# Altium integrated library Altium_IC.IntLib: 49 symbols (part 2 of 2)
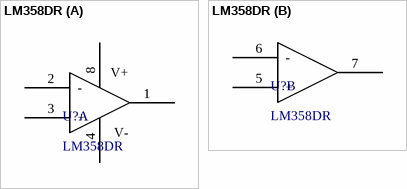
[diagram p20: symbol LM358DR]

## LM358DR
designator U?
Operational Amplifiers - Op Amps Dual Op Amp; Manufacturer: Texas Instruments; Active Read Current - Max: Active; CMRR - Common Mode Rejection Ratio: 80 dB; Dual Supply Voltage: +/- 3 V, +/- 5 V, +/- 9 V; GBP - Gain Bandwidth Product: 700 kHz; Ib - Input Bias Current: 250 nA; Number of Channels: 2 Channel; Operating Supply Current: 350 uA; Output Current per Channel: 20 mA; SR - Slew Rate: 300 mV/us; Supply Voltage - Max: 32 V; Supply Voltage - Min: 3 V; Voltage Gain dB: 100 dB; Vos - Input Offset Voltage: 7 mV; Supplier 1 URL: https://www.mouser.com/ProductDetail/Texas-Instruments/LM358DR?qs=Zu35EjizYSSY6pJ37yjmHA%3D%3D; Supplier 2 URL: N/A; Supplier 3 URL: N/A; Value: LM358DR; Manufacturer Part Number: LM358DR; Supplier 1: Mouser; Supplier 1 Part Number: 595-LM358DR; Supplier 2: Digi-Key; Supplier 2 Part Number: N/A; Supplier 3: thegioiic; Supplier 3 Part Number: N/A; Mount: SMD/SMT; Operating Temperature Max: + 85 C; Operating Temperature Min: - 40 C; Package / Case: SOIC-8; Packaging: Tape and Reel; ComponentLink1Description: Datasheet; ComponentLink1URL: https://www.ti.com/general/docs/suppproductinfo.tsp?distId=26&gotoUrl=https://www.ti.com/lit/gpn/lm358; LCSC Part #: C5423
footprint LM358DR (SOIC, 8-Leads, Body 4.90x3.90mm, Pitch 1.27mm, IPC Medium Density)
part A pins: 1 OUT 1, 2 -, 3 +, 4 GND, 8 VCC
part B pins: 5 +, 6 -, 7 OUT 1
part A text: V+; V-


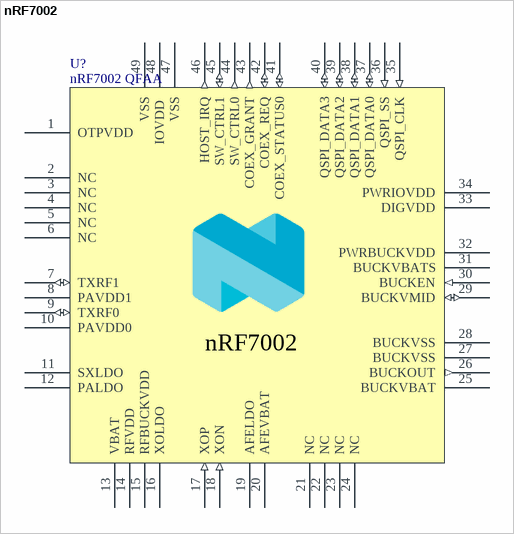
[diagram p12: symbol nRF7002]

## nRF7002
designator U?, comment nRF7002 QFAA
Wifi Dual Band Companion chip; Manufacturer: Nordic Semiconductor; Manufacturer Part Number: nRF7002-QFAAAA; Pad Count: 49; Supply Voltage - Max: 3.3 V; Supply Voltage - Min: 1.8 V; Component Class: nRF_Devices; Author: hany; Published: 2021-09-16; Value: nRF7002 QFAA; Supplier 1 URL: https://www.mouser.sg/c/?q=NRF7002-QFAA-R; Supplier 2 URL: N/A; Supplier 3 URL: N/A; Supplier 1: Mouser; Supplier 1 Part Number: nRF7002; Supplier 2: Digi-Key; Supplier 2 Part Number: N/A; Supplier 3: thegioiic; Supplier 3 Part Number: N/A; Mount: SMD/SMT; Operating Temperature Max: + 85 C; Operating Temperature Min: - 40 C; Package / Case: QFN-48; ComponentLink1Description: Datasheet; ComponentLink1URL: https://www.mouser.sg/datasheet/2/297/Nordic_Semiconductor_1_6_2023_nRF7002_IC_Product_B-3084788.pdf; Packaging: Tape and Reel
footprint nRF7002 (QFN40P600X600X60-48N)
pins: 1 OTPVDD (power) "OTP write mode supply,  (2.25-2.75V)", 2 NC, 3 NC, 4 NC, 5 NC, 6 NC, 7 TXRF1 (io) "RF INOUT ,", 8 PAVDD1 (power) "Supply ,  (3.3V)", 9 TXRF0 (io) "RF INOUT ,", 10 PAVDD0 (power) "Supply ,  (3.3V)", 11 SXLDO (power) "Supply ,  (1.2V)", 12 PALDO (power) "Supply ,  (3.3V)", 13 VBAT (power) "Supply ,  (2.5-4.5V)", 14 RFVDD (power) "Supply ,  (1.8V)", 15 RFBUCKVDD (power) "Supply ,  (1.5V)", 16 XOLDO (power) "Supply ,  (1.2V)", 17 XOP (in) "40MHz crystal ,", 18 XON (in) "40MHz crystal ,", 19 AFELDO (power) "Supply ,  (1.8V)", 20 AFEVBAT (power) "Supply ,  (2.5-4.5V)", 21 NC, 22 NC, 23 NC, 24 NC, 25 BUCKVBAT (power) "Supply ,  (2.5-4.5V)", 26 BUCKOUT (out) "DCDC output", 27 BUCKVSS (power) "DCDC GND", 28 BUCKVSS (power) "DCDC GND", 29 BUCKVMID (io) "Voltage reference decoupling pin ,", 30 BUCKEN (in) "PWR IP enable pin ,", 31 BUCKVBATS (power) "Supply ,  (2.5-4.5V)", 32 PWRBUCKVDD (power) "Supply ,  (1.5V)", 33 DIGVDD (power) "Supply ,  (1.1V)", 34 PWRIOVDD (power) "internal IO supply, may be used for OTP read,  (1.8-3.3 V)", 35 QSPI_CLK (in) "QSPI Clock", 36 QSPI_SS (in) "QSPI  Slave select", 37 QSPI_DATA0 (io) "QSPI data 0/MOSI", 38 QSPI_DATA1 (io) "QSPI data 1/MISO", 39 QSPI_DATA2 (io) "QSPI data 2/NC", 40 QSPI_DATA3 (io) "QSPI data 3/NC", 41 COEX_STATUS0 (io) "Coex interface, DIGMON1 (O) / GPIO1 (O)", 42 COEX_REQ (io) "Coex interface, DIGMON0 (O) / GPIO0 (O)", 43 COEX_GRANT (out) "Coex interface, GPIO2 (O)", 44 SW_CTRL0 (out) "external switch control , GPIO3 (O)", 45 SW_CTRL1 (io) "external switch control , GPIO4 (O) / BT_COEX_STATUS1 (I)", 46 HOST_IRQ (out) "Host processor interrupt request , GPIO5 (O)", 47 VSS "Connect to GND", 48 IOVDD  (power) "IO supply ,  (1.8-3.3 V)", 49 VSS (power) "Center Pad"


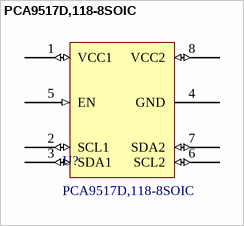
[diagram p13: symbol PCA9517D,118-8SOIC]

## PCA9517D,118-8SOIC
designator U?
IC REDRIVER I2C 1CH 400KHZ 8SOIC; Manufacturer: NXP USA Inc.; Active Read Current - Max: 5 mA; Number of Channels: 2; Capacitance - Input: 6 pF; Supply Voltage - Max: 5.5 V; Supply Voltage - Min: 2.7 V; Applications: I2C; Data Rate (Max): 400 kHz; Supplier 1 URL: https://www.mouser.com/ProductDetail/NXP-Semiconductors/PCA9517D118?qs=LOCUfHb8d9vRhua6vNQMbg%3D%3D; Supplier 2 URL: https://www.digikey.com/en/products/detail/nxp-usa-inc/PCA9517D-118/789917; Supplier 3 URL: N/A; Value: PCA9517D,118-8SOIC; Supplier 1: Mouser; Supplier 1 Part Number: 771-PCA9517D-T; Supplier 2: Digi-Key; Supplier 2 Part Number: 568-1828-2-ND; Supplier 3: thegioiic; Supplier 3 Part Number: N/A; Manufacturer Part Number: PCA9517D,118; Mount: SMD/SMT; Operating Temperature Max: + 85 C; Operating Temperature Min: - 40 C; Package / Case: 8SOIC; Packaging: Tape and Reel; ComponentLink1Description: Datasheet; ComponentLink1URL: https://www.nxp.com/docs/en/data-sheet/PCA9517.pdf
footprint PCA9517D,118-8SOIC (SOIC, 8-Leads, Body 4.90x3.90mm, Pitch 1.27mm, IPC Medium Density)
pins: 1 VCC1 (io), 2 SCL1 (io), 3 SDA1 (io), 4 GND (power), 5 EN (in), 6 SCL2 (io), 7 SDA2 (io), 8 VCC2 (io)


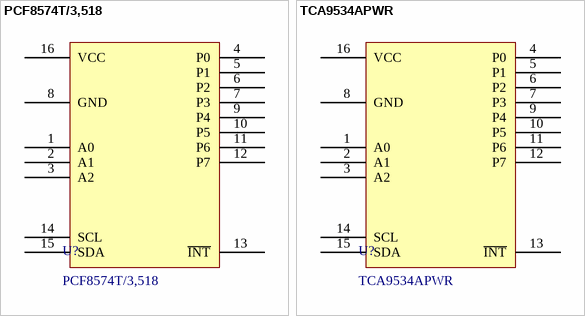
[diagram p14: symbols PCF8574T/3,518 to TCA9534APWR]

## PCF8574T/3,518
designator U?
Interface - I/O Expanders I/O EXPANDER I2C; Manufacturer: NXP; Supply Voltage - Max: 6 V; Supply Voltage - Min: 2.5 V; Configuration Registers: No; Interface Type: I2C, Serial; Interrupt Output: With Interrupt; Maximum Clock Frequency: 100 kHz; Number of I/Os: 8 I/O; ComponentLink1Description: Datasheet; ComponentLink1URL: https://www.mouser.vn/datasheet/2/302/PCF8574_PCF8574A-3139141.pdf; LCSC Part #: C7605; Manufacturer Part Number: PCF8574T/3,518; Mount: SMD/SMT; Operating Temperature Max: + 85 C; Operating Temperature Min: - 40 C; Package / Case: SOIC-16; Packaging: Tape and Reel; Supplier 1: Mouser; Supplier 1 Part Number: 771-PCF8574TD-T; Supplier 1 URL: https://www.mouser.vn/ProductDetail/NXP-Semiconductors/PCF8574T-3518?qs=LOCUfHb8d9srwcgHHpXqQw%3D%3D; Supplier 2: Digi-Key; Supplier 2 Part Number: N/A; Supplier 2 URL: N/A; Supplier 3: thegioiic; Supplier 3 Part Number: N/A; Supplier 3 URL: N/A; Value: PCF8574T/3,518
footprint PCF8574T/3,518 (SOIC, 16-Leads, Body 10.30x7.50mm, Pitch 1.27mm, IPC Medium Density)
pins: 1 A0, 2 A1, 3 A2, 4 P0, 5 P1, 6 P2, 7 P3, 8 GND, 9 P4, 10 P5, 11 P6, 12 P7, 13 ~{INT}, 14 SCL, 15 SDA, 16 VCC

## TCA9534APWR
designator U?
Interface - I/O Expanders Remote 8B I2C and Low-Pwr I/O Expander; Manufacturer: Texas Instruments; Supply Voltage - Max: 5.5 V; Supply Voltage - Min: 1.65 V; Configuration Registers: Yes; Interface Type: I2C, Serial, SMBus; Interrupt Output: With Interrupt; Maximum Clock Frequency: 400 kHz; Number of I/Os: 8 I/O; ComponentLink1Description: Datasheet; ComponentLink1URL: https://www.ti.com/general/docs/suppproductinfo.tsp?distId=26&gotoUrl=https://www.ti.com/lit/gpn/tca9534a; LCSC Part #: C206010; Manufacturer Part Number: TCA9534APWR; Mount: SMD/SMT; Operating Temperature Max: + 85 C; Operating Temperature Min: - 40 C; Package / Case: TSSOP-16; Packaging: Tape and Reel; Supplier 1: Mouser; Supplier 1 Part Number: 595-TCA9534APWR; Supplier 1 URL: https://www.mouser.vn/ProductDetail/Texas-Instruments/TCA9534APWR?qs=asCBFxFfL1RkU8XbvZBOXg%3D%3D; Supplier 2: Digi-Key; Supplier 2 Part Number: N/A; Supplier 2 URL: N/A; Supplier 3: thegioiic; Supplier 3 Part Number: N/A; Supplier 3 URL: N/A; Value: TCA9534APWR
footprint TCA9534APWR (TSOP, 16-Leads, Body 5.00x4.40mm, Pitch 0.65mm, IPC Medium Density)
pins: 1 A0, 2 A1, 3 A2, 4 P0, 5 P1, 6 P2, 7 P3, 8 GND, 9 P4, 10 P5, 11 P6, 12 P7, 13 ~{INT}, 14 SCL, 15 SDA, 16 VCC


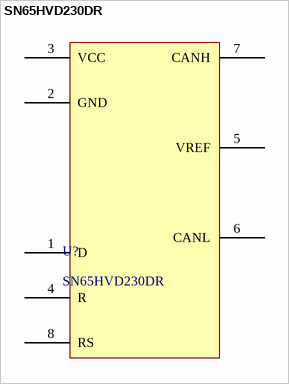
[diagram p15: symbol SN65HVD230DR]

## SN65HVD230DR
designator U?
CAN Interface IC STANDBY MODE; Manufacturer: Texas Instruments; Active Read Current - Max: Active; Data Rate: 1 Mb/s; Number of Drivers: 1; Supply Voltage - Max: 3.6 V; Supply Voltage - Min: 3.1 V; Supplier 1 URL: https://www.mouser.com/ProductDetail/Texas-Instruments/SN65HVD230DR?qs=QViXGNcIEAtifeQR3pYVUQ%3D%3D; Supplier 2 URL: https://www.digikey.com/en/products/detail/texas-instruments/SN65HVD230DR/404367; Supplier 3 URL: https://www.thegioiic.com/sn65hvd230dr-can-transceiver-8-soic; Value: SN65HVD230DR; Number of Receivers: 1; Supplier 1: Mouser; Supplier 1 Part Number: 595-SN65HVD230DR; Supplier 2: Digi-Key; Supplier 2 Part Number: 296-11654-2-ND; Supplier 3: thegioiic; Supplier 3 Part Number: SN65HVD230DR; Manufacturer Part Number: SN65HVD230DR; Mount: SMD/SMT; Operating Temperature Max: + 85 C; Operating Temperature Min: - 40 C; Package / Case: SOIC-8; ComponentLink1Description: Datasheet; ComponentLink1URL: https://www.ti.com/general/docs/suppproductinfo.tsp?distId=26&gotoUrl=https://www.ti.com/lit/gpn/sn65hvd230; Packaging: Tape and Reel
footprint SN65HVD230 (SOIC, 8-Leads, Body 4.91x3.85mm, Pitch 1.27mm, IPC Medium Density)
pins: 1 D, 2 GND, 3 VCC, 4 R, 5 VREF, 6 CANL, 7 CANH, 8 RS


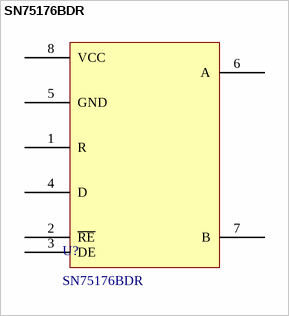
[diagram p16: symbol SN75176BDR]

## SN75176BDR
designator U?
RS-422/RS-485 Interface IC Differential Bus; Manufacturer: Texas Instruments; Active Read Current - Max: Active; Data Rate: 10 Mb/s; Duplex: Half Duplex; Number of Drivers: 1; Operating Supply Current: 70 mA; Supply Voltage - Max: 5.25 V; Supply Voltage - Min: 4.75 V; Supplier 1 URL: https://www.mouser.com/ProductDetail/Texas-Instruments/SN75176BDR?qs=sbcp%2F4gpy09LI1PRfuQQ%252BA%3D%3D; Supplier 2 URL: N/A; Supplier 3 URL: N/A; Value: SN75176BDR; Number of Receivers: 1; Manufacturer Part Number: SN75176BDR; Packaging: Tape and Reel; Supplier 1: Mouser; Supplier 1 Part Number: 595-SN75176BDR; Supplier 2: Digi-Key; Supplier 2 Part Number: N/A; Supplier 3: thegioiic; Supplier 3 Part Number: N/A; Mount: SMD/SMT; Operating Temperature Max: + 85 C; Operating Temperature Min: - 40 C; Package / Case: SOIC-8; ComponentLink1Description: Datasheet; ComponentLink1URL: https://www.ti.com/general/docs/suppproductinfo.tsp?distId=26&gotoUrl=https://www.ti.com/lit/gpn/sn75176b; LCSC Part #: C7063
footprint SN75176BDR (SOIC, 8-Leads, Body 4.90x3.90mm, Pitch 1.27mm, IPC Medium Density)
pins: 1 R, 2 ~{RE}, 3 DE, 4 D, 5 GND, 6 A, 7 B, 8 VCC


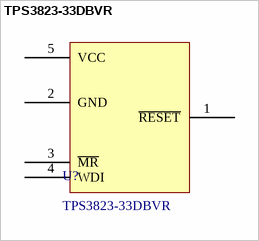
[diagram p17: symbol TPS3823-33DBVR]

## TPS3823-33DBVR
designator U?
Supervisory Circuits 2.93V Monitor; Manufacturer: Texas Instruments; Supply Voltage - Max: 5.5 V; Supply Voltage - Min: 1.1 V; Accuracy: 2.4%; Battery Backup Switching: No Backup; Chip Enable Signals: No Chip Enable; Number of Inputs Monitored: 1 Input; Operating Supply Current: 15 uA; Output Current: 10 mA; Output Type: Active Low, Push-Pull; Overvoltage Threshold: 3 V; Pd - Power Dissipation: 437 mW; Power Fail Detection: No; Reset Delay Time: 200 ms; Watchdog Timers: Watchdog; ComponentLink1Description: Datasheet; ComponentLink1URL: https://www.ti.com/lit/gpn/tps3823; LCSC Part #: C7719; Manufacturer Part Number: TPS3823-33DBVR; Mount: SMD/SMT; Operating Temperature Max: + 85 C; Operating Temperature Min: - 40 C; Package / Case: SOT-23-5; Packaging: Tape and Reel; Supplier 1: Mouser; Supplier 1 Part Number: 595-TPS3823-33DBVR; Supplier 1 URL: https://www.mouser.com/ProductDetail/Texas-Instruments/TPS3823-33DBVR?qs=mTHRaKC2c7OFNY0AQKcsRQ%3D%3D; Supplier 2: Digi-Key; Supplier 2 Part Number: N/A; Supplier 2 URL: N/A; Supplier 3: thegioiic; Supplier 3 Part Number: N/A; Supplier 3 URL: N/A; Value: TPS3823-33DBVR; Manual Reset: Manual Reset; Threshold Voltage: 2.93 V; Undervoltage Threshold: 2.93 V
footprint TPS382x-SOT-23-5 (SOT23, 5-Leads, Body 2.90x2.80mm, Pitch 0.95mm, IPC Medium Density)
pins: 1 ~{RESET}, 2 GND, 3 ~{MR}, 4 WDI, 5 VCC


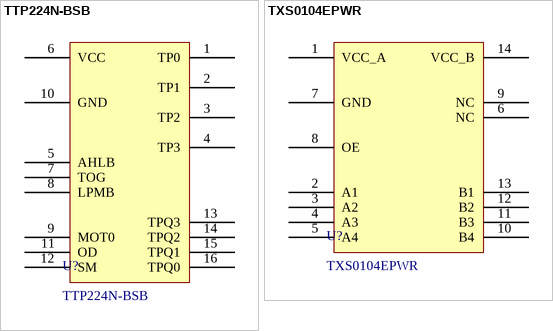
[diagram p18: symbols TTP224N-BSB to TXS0104EPWR]

## TTP224N-BSB
designator U?
4 KEY TOUCH PAD DETECTOR IC; Manufacturer: TONTEK; Active Read Current - Max: Active; Supply Voltage - Max: 5.5 V; Supply Voltage - Min: 2.7 V; Supplier 1: Mouser; Supplier 1 Part Number: N/A; Supplier 1 URL: N/A; Supplier 2: Digi-Key; Supplier 2 Part Number: N/A; Supplier 2 URL: N/A; Supplier 3: thegioiic; Supplier 3 Part Number: TTP224N-BSB; Supplier 3 URL: https://www.thegioiic.com/ttp224n-bsb; Value: TTP224N-BSB; Manufacturer Part Number: TTP224N-BSB; Mount: SMD/SMT; Operating Temperature Max: + 85 C; Operating Temperature Min: - 40 C; Packaging: Tape and Reel; ComponentLink1Description: Datasheet; ComponentLink1URL: N/A
footprint TouchSensorIC_16Pin (SOP, 16-Leads, Body 4.90x3.90mm, Pitch 0.64mm, IPC Medium Density)
pins: 1 TP0, 2 TP1, 3 TP2, 4 TP3, 5 AHLB, 6 VCC, 7 TOG, 8 LPMB, 9 MOT0, 10 GND, 11 OD, 12 SM, 13 TPQ3, 14 TPQ2, 15 TPQ1, 16 TPQ0

## TXS0104EPWR
designator U?
Translation - Voltage Levels 4B Bidrctnl Vltg Lvl Trnsltr Opn Dran App; Manufacturer: Texas Instruments; Data Rate: 50 Mb/s; High Level Output Current: 24 mA; Propagation Delay Time: 260 ns; Supply Voltage - Max: 5.5 V; Supply Voltage - Min: 1.65 V; Active Read Current - Max: Active; Low Level Output Current: 24 mA; Manufacturer Part Number: TXS0104EPWR; Mount: SMD/SMT; Operating Temperature Max: + 85 C; Operating Temperature Min: - 40 C; Package / Case: TSSOP-14; Packaging: Tape and Reel; Supplier 1: Mouser; Supplier 1 Part Number: 595-TXS0104EPWR; Supplier 1 URL: https://www.mouser.vn/ProductDetail/Texas-Instruments/TXS0104EPWR?qs=7kv20MEVUlglsv2MH6ZndA%3D%3D; Supplier 2: Digi-Key; Supplier 2 Part Number: N/A; Supplier 2 URL: N/A; Supplier 3: thegioiic; Supplier 3 Part Number: N/A; Supplier 3 URL: N/A; Value: TXS0104EPWR; ComponentLink1Description: Datasheet; ComponentLink1URL: https://www.ti.com/general/docs/suppproductinfo.tsp?distId=26&gotoUrl=https://www.ti.com/lit/gpn/txs0104e
footprint TXS0104EPWR (Footprint not found)
pins: 1 VCC_A, 2 A1, 3 A2, 4 A3, 5 A4, 6 NC, 7 GND, 8 OE, 9 NC, 10 B4, 11 B3, 12 B2, 13 B1, 14 VCC_B


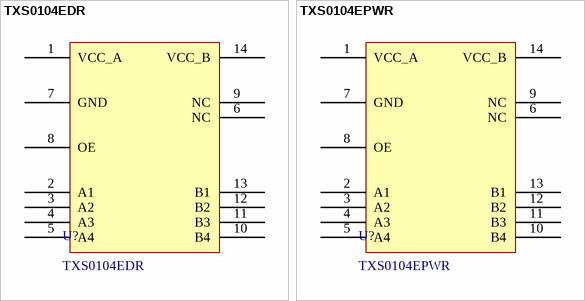
[diagram p19: symbols TXS0104EDR to TXS0104EPWR]

## TXS0104EDR
designator U?
Translation - Voltage Levels 4B Bidrctnl Vltg Lvl Trnsltr Opn Dran App; Manufacturer: Texas Instruments; Data Rate: 50 Mb/s; High Level Output Current: 24 mA; Propagation Delay Time: 260 ns; Supply Voltage - Max: 5.5 V; Supply Voltage - Min: 1.65 V; Low Level Output Current: 24 mA; Manufacturer Part Number: TXS0104EDR; Mount: SMD/SMT; Operating Temperature Max: + 85 C; Operating Temperature Min: - 40 C; Package / Case: SOIC-14; Packaging: Tape and Reel; Supplier 1: Mouser; Supplier 1 Part Number: 595-TXS0104EDR; Supplier 1 URL: https://www.mouser.vn/ProductDetail/Texas-Instruments/TXS0104EDR?qs=7kv20MEVUljeQYQBZTsYxg%3D%3D; Supplier 2: Digi-Key; Supplier 2 Part Number: N/A; Supplier 2 URL: N/A; Supplier 3: thegioiic; Supplier 3 Part Number: N/A; Supplier 3 URL: N/A; Value: TXS0104EDR; ComponentLink1Description: Datasheet; ComponentLink1URL: https://www.ti.com/general/docs/suppproductinfo.tsp?distId=26&gotoUrl=https://www.ti.com/lit/gpn/txs0104e; LCSC Part #: C79342
footprint TXS0104EDR (SOP, 14-Leads, Body 8.65x3.90mm, Pitch 1.27mm, IPC Medium Density)
pins: 1 VCC_A, 2 A1, 3 A2, 4 A3, 5 A4, 6 NC, 7 GND, 8 OE, 9 NC, 10 B4, 11 B3, 12 B2, 13 B1, 14 VCC_B

## TXS0104EPWR
designator U?
Translation - Voltage Levels 4B Bidrctnl Vltg Lvl Trnsltr Opn Dran App; Manufacturer: Texas Instruments; Data Rate: 50 Mb/s; High Level Output Current: 24 mA; Propagation Delay Time: 260 ns; Supply Voltage - Max: 5.5 V; Supply Voltage - Min: 1.65 V; Low Level Output Current: 24 mA; Manufacturer Part Number: TXS0104EPWR; Mount: SMD/SMT; Operating Temperature Max: + 85 C; Operating Temperature Min: - 40 C; Package / Case: TSSOP-14; Packaging: Tape and Reel; Supplier 1: Mouser; Supplier 1 Part Number: 595-TXS0104EPWR; Supplier 1 URL: https://www.mouser.vn/ProductDetail/Texas-Instruments/TXS0104EPWR?qs=7kv20MEVUlglsv2MH6ZndA%3D%3D; Supplier 2: Digi-Key; Supplier 2 Part Number: N/A; Supplier 2 URL: N/A; Supplier 3: thegioiic; Supplier 3 Part Number: N/A; Supplier 3 URL: N/A; Value: TXS0104EPWR; ComponentLink1Description: Datasheet; ComponentLink1URL: https://www.ti.com/general/docs/suppproductinfo.tsp?distId=26&gotoUrl=https://www.ti.com/lit/gpn/txs0104e; LCSC Part #: C44955
footprint TXS0104EPWR (TSOP, 14-Leads, Body 5.00x4.40mm, Pitch 0.65mm, IPC Medium Density)
pins: 1 VCC_A, 2 A1, 3 A2, 4 A3, 5 A4, 6 NC, 7 GND, 8 OE, 9 NC, 10 B4, 11 B3, 12 B2, 13 B1, 14 VCC_B